# Altium integrated library TI Amplifiers and Linear Operational Amplifier Precision Amplifier Part One.IntLib: 2299 symbols (part 66 of 85)
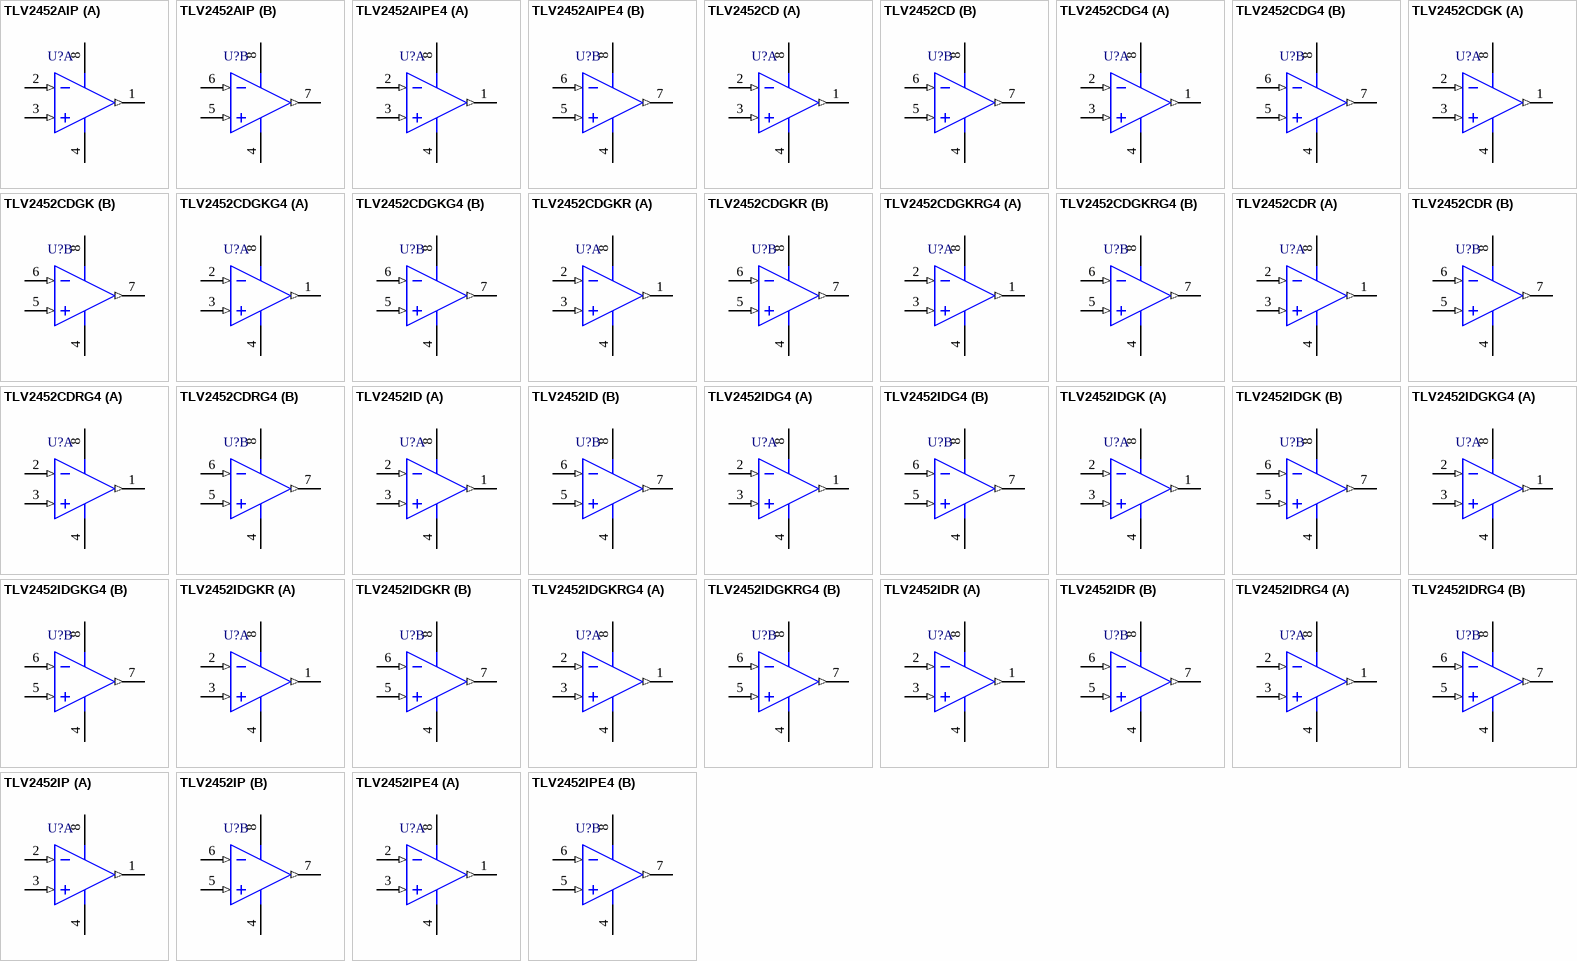
[diagram p189: symbols TLV2452AIP to TLV2452IPE4]

## TLV2452CD
designator U?
Dual Micropower Rail-to-Rail Input / Output Operational Amplifier, 2.7 to 6 V, 0 to 70 degC, 8-pin SOIC (D8), Green (RoHS & no Sb/Br); Manufacturer: Texas Instruments; PartNumber: TLV2452CD; CMRR(Min)(dB): 70; IIB(Max)(pA): 5000; Iq per channel(Max)(mA): 0.035; Number of Channels: 2; Offset Drift(Typ)(uV/C): 0.3; Slew Rate(Typ)(V/us): 0.11; Sub Family: Low Power Amp (<=500uA), Low Supply Voltage Amplifier (<=2.7V), Precision Amplifier; Total Supply Voltage(Max)(+5V is 5, +/-5V is 10): 6; Total Supply Voltage(Min)(+5V is 5, +/-5V is 10): 2.7; Vio (25C)(Max)(mV): 1.5; Vn at 1kHz(Typ)(nV/rtHz): 51; DatasheetVersion: SLOS218F; PackageVersion: 4040047-3/M, 06/2011; PackageReference: D8; PackageDescription: 8-Pin Plastic Small Outline, Body 4.9 x 3.9 mm, Pitch 1.27 mm; Supplier 1: Digi-Key; Supplier Part Number 1: 296-2428-5-ND; Supplier 2: Newark; Supplier Part Number 2: 19C8995; Supplier 3: Mouser; Supplier Part Number 3: 595-TLV2452CD; Eco-Plan: Green (RoHS & no Sb/Br); Mounting Technology: Surface Mount; Code_JEDEC: MS-012; ComponentLink1Description: Manufacturer URL; ComponentLink1URL: http://www.ti.com/; ComponentLink2Description: Datasheet; ComponentLink2URL: http://www.ti.com/general/docs/lit/getliterature.tsp?genericPartNumber=TLV2452&fileType=pdf; ComponentLink3Description: Package Specification; ComponentLink3URL: http://www.ti.com/litv/pdf/msoi002j
footprint TI-D8_N (SOIC, 8-Leads, Body 4.9x3.9mm, Pitch 1.27mm, IPC Medium Density)
footprint TI-D8_L (SOIC, 8-Leads, Body 4.9x3.9mm, Pitch 1.27mm, IPC High Density)
footprint TI-D8_M (SOIC, 8-Leads, Body 4.9x3.9mm, Pitch 1.27mm, IPC Low Density)
pins on every part: 4 GND (power), 8 VDD+ (power)
part A pins: 1 OUT1 (out), 2 IN1- (in), 3 IN1+ (in)
part B pins: 5 IN2+ (in), 6 IN2- (in), 7 OUT2 (out)

## TLV2452CDG4
designator U?
Dual Micropower Rail-to-Rail Input / Output Operational Amplifier, 2.7 to 6 V, 0 to 70 degC, 8-pin SOIC (D8), Green (RoHS & no Sb/Br); Manufacturer: Texas Instruments; PartNumber: TLV2452CDG4; CMRR(Min)(dB): 70; IIB(Max)(pA): 5000; Iq per channel(Max)(mA): 0.035; Number of Channels: 2; Offset Drift(Typ)(uV/C): 0.3; Slew Rate(Typ)(V/us): 0.11; Sub Family: Low Power Amp (<=500uA), Low Supply Voltage Amplifier (<=2.7V), Precision Amplifier; Total Supply Voltage(Max)(+5V is 5, +/-5V is 10): 6; Total Supply Voltage(Min)(+5V is 5, +/-5V is 10): 2.7; Vio (25C)(Max)(mV): 1.5; Vn at 1kHz(Typ)(nV/rtHz): 51; DatasheetVersion: SLOS218F; PackageVersion: 4040047-3/M, 06/2011; PackageReference: D8; PackageDescription: 8-Pin Plastic Small Outline, Body 4.9 x 3.9 mm, Pitch 1.27 mm; Supplier 1: Digi-Key; Supplier Part Number 1: TLV2452CDG4-ND; Supplier 2: Mouser; Supplier Part Number 2: 595-TLV2452CDG4; Eco-Plan: Green (RoHS & no Sb/Br); Mounting Technology: Surface Mount; Code_JEDEC: MS-012; ComponentLink1Description: Manufacturer URL; ComponentLink1URL: http://www.ti.com/; ComponentLink2Description: Datasheet; ComponentLink2URL: http://www.ti.com/general/docs/lit/getliterature.tsp?genericPartNumber=TLV2452&fileType=pdf; ComponentLink3Description: Package Specification; ComponentLink3URL: http://www.ti.com/litv/pdf/msoi002j
footprint TI-D8_N (SOIC, 8-Leads, Body 4.9x3.9mm, Pitch 1.27mm, IPC Medium Density)
footprint TI-D8_L (SOIC, 8-Leads, Body 4.9x3.9mm, Pitch 1.27mm, IPC High Density)
footprint TI-D8_M (SOIC, 8-Leads, Body 4.9x3.9mm, Pitch 1.27mm, IPC Low Density)
pins on every part: 4 GND (power), 8 VDD+ (power)
part A pins: 1 OUT1 (out), 2 IN1- (in), 3 IN1+ (in)
part B pins: 5 IN2+ (in), 6 IN2- (in), 7 OUT2 (out)

## TLV2452CDGK
designator U?
Dual Micropower Rail-to-Rail Input / Output Operational Amplifier, 2.7 to 6 V, 0 to 70 degC, 8-pin SOP (DGK8), Green (RoHS & no Sb/Br); Manufacturer: Texas Instruments; PartNumber: TLV2452CDGK; CMRR(Min)(dB): 70; IIB(Max)(pA): 5000; Iq per channel(Max)(mA): 0.035; Number of Channels: 2; Offset Drift(Typ)(uV/C): 0.3; Slew Rate(Typ)(V/us): 0.11; Sub Family: Low Power Amp (<=500uA), Low Supply Voltage Amplifier (<=2.7V), Precision Amplifier; Total Supply Voltage(Max)(+5V is 5, +/-5V is 10): 6; Total Supply Voltage(Min)(+5V is 5, +/-5V is 10): 2.7; Vio (25C)(Max)(mV): 1.5; Vn at 1kHz(Typ)(nV/rtHz): 51; DatasheetVersion: SLOS218F; PackageVersion: 4073329/E, 05/2006; PackageReference: DGK8; PackageDescription: 8-Pin Thin Small Outline, Body 3 x 3 mm, Pitch 0.65 mm; Supplier 1: Digi-Key; Supplier Part Number 1: 296-34434-5-ND; Supplier 2: Newark; Supplier Part Number 2: 76C8119; Supplier 3: Mouser; Supplier Part Number 3: 595-TLV2452CDGK; Eco-Plan: Green (RoHS & no Sb/Br); Mounting Technology: Surface Mount; Code_JEDEC: MO-187; ComponentLink1Description: Manufacturer URL; ComponentLink1URL: http://www.ti.com/; ComponentLink2Description: Datasheet; ComponentLink2URL: http://www.ti.com/general/docs/lit/getliterature.tsp?genericPartNumber=TLV2452&fileType=pdf; ComponentLink3Description: Package Specification; ComponentLink3URL: http://www.ti.com/litv/pdf/mpds028d
footprint TI-DGK8_N (SOP, 8-Leads, Body 3x3mm, Pitch 0.65mm, IPC Medium Density)
footprint TI-DGK8_L (SOP, 8-Leads, Body 3x3mm, Pitch 0.65mm, IPC High Density)
footprint TI-DGK8_M (SOP, 8-Leads, Body 3x3mm, Pitch 0.65mm, IPC Low Density)
pins on every part: 4 GND (power), 8 VDD+ (power)
part A pins: 1 OUT1 (out), 2 IN1- (in), 3 IN1+ (in)
part B pins: 5 IN2+ (in), 6 IN2- (in), 7 OUT2 (out)

## TLV2452CDGKG4
designator U?
Dual Micropower Rail-to-Rail Input / Output Operational Amplifier, 2.7 to 6 V, 0 to 70 degC, 8-pin SOP (DGK8), Green (RoHS & no Sb/Br); Manufacturer: Texas Instruments; PartNumber: TLV2452CDGKG4; CMRR(Min)(dB): 70; IIB(Max)(pA): 5000; Iq per channel(Max)(mA): 0.035; Number of Channels: 2; Offset Drift(Typ)(uV/C): 0.3; Slew Rate(Typ)(V/us): 0.11; Sub Family: Low Power Amp (<=500uA), Low Supply Voltage Amplifier (<=2.7V), Precision Amplifier; Total Supply Voltage(Max)(+5V is 5, +/-5V is 10): 6; Total Supply Voltage(Min)(+5V is 5, +/-5V is 10): 2.7; Vio (25C)(Max)(mV): 1.5; Vn at 1kHz(Typ)(nV/rtHz): 51; DatasheetVersion: SLOS218F; PackageVersion: 4073329/E, 05/2006; PackageReference: DGK8; PackageDescription: 8-Pin Thin Small Outline, Body 3 x 3 mm, Pitch 0.65 mm; Supplier 1: Digi-Key; Supplier Part Number 1: TLV2452CDGKG4-ND; Supplier 2: Newark; Supplier Part Number 2: 66K4419; Supplier 3: Mouser; Supplier Part Number 3: 595-TLV2452CDGKG4; Eco-Plan: Green (RoHS & no Sb/Br); Mounting Technology: Surface Mount; Code_JEDEC: MO-187; ComponentLink1Description: Manufacturer URL; ComponentLink1URL: http://www.ti.com/; ComponentLink2Description: Datasheet; ComponentLink2URL: http://www.ti.com/general/docs/lit/getliterature.tsp?genericPartNumber=TLV2452&fileType=pdf; ComponentLink3Description: Package Specification; ComponentLink3URL: http://www.ti.com/litv/pdf/mpds028d
footprint TI-DGK8_N (SOP, 8-Leads, Body 3x3mm, Pitch 0.65mm, IPC Medium Density)
footprint TI-DGK8_L (SOP, 8-Leads, Body 3x3mm, Pitch 0.65mm, IPC High Density)
footprint TI-DGK8_M (SOP, 8-Leads, Body 3x3mm, Pitch 0.65mm, IPC Low Density)
pins on every part: 4 GND (power), 8 VDD+ (power)
part A pins: 1 OUT1 (out), 2 IN1- (in), 3 IN1+ (in)
part B pins: 5 IN2+ (in), 6 IN2- (in), 7 OUT2 (out)

## TLV2452CDGKR
designator U?
Dual Micropower Rail-to-Rail Input / Output Operational Amplifier, 2.7 to 6 V, 0 to 70 degC, 8-pin SOP (DGK8), Green (RoHS & no Sb/Br); Manufacturer: Texas Instruments; PartNumber: TLV2452CDGKR; CMRR(Min)(dB): 70; IIB(Max)(pA): 5000; Iq per channel(Max)(mA): 0.035; Number of Channels: 2; Offset Drift(Typ)(uV/C): 0.3; Slew Rate(Typ)(V/us): 0.11; Sub Family: Low Power Amp (<=500uA), Low Supply Voltage Amplifier (<=2.7V), Precision Amplifier; Total Supply Voltage(Max)(+5V is 5, +/-5V is 10): 6; Total Supply Voltage(Min)(+5V is 5, +/-5V is 10): 2.7; Vio (25C)(Max)(mV): 1.5; Vn at 1kHz(Typ)(nV/rtHz): 51; DatasheetVersion: SLOS218F; PackageVersion: 4073329/E, 05/2006; PackageReference: DGK8; PackageDescription: 8-Pin Thin Small Outline, Body 3 x 3 mm, Pitch 0.65 mm; Supplier 1: Digi-Key; Supplier Part Number 1: 296-10580-2-ND; Supplier 2: Digi-Key; Supplier Part Number 2: 296-10580-1-ND; Supplier 3: Digi-Key; Supplier Part Number 3: 296-10580-6-ND; Supplier 4: Newark; Supplier Part Number 4: 76C8120; Supplier 5: Mouser; Supplier Part Number 5: 595-TLV2452CDGKR; Eco-Plan: Green (RoHS & no Sb/Br); Mounting Technology: Surface Mount; Code_JEDEC: MO-187; ComponentLink1Description: Manufacturer URL; ComponentLink1URL: http://www.ti.com/; ComponentLink2Description: Datasheet; ComponentLink2URL: http://www.ti.com/general/docs/lit/getliterature.tsp?genericPartNumber=TLV2452&fileType=pdf; ComponentLink3Description: Package Specification; ComponentLink3URL: http://www.ti.com/litv/pdf/mpds028d
footprint TI-DGK8_N (SOP, 8-Leads, Body 3x3mm, Pitch 0.65mm, IPC Medium Density)
footprint TI-DGK8_L (SOP, 8-Leads, Body 3x3mm, Pitch 0.65mm, IPC High Density)
footprint TI-DGK8_M (SOP, 8-Leads, Body 3x3mm, Pitch 0.65mm, IPC Low Density)
pins on every part: 4 GND (power), 8 VDD+ (power)
part A pins: 1 OUT1 (out), 2 IN1- (in), 3 IN1+ (in)
part B pins: 5 IN2+ (in), 6 IN2- (in), 7 OUT2 (out)

## TLV2452CDGKRG4
designator U?
Dual Micropower Rail-to-Rail Input / Output Operational Amplifier, 2.7 to 6 V, 0 to 70 degC, 8-pin SOP (DGK8), Green (RoHS & no Sb/Br); Manufacturer: Texas Instruments; PartNumber: TLV2452CDGKRG4; CMRR(Min)(dB): 70; IIB(Max)(pA): 5000; Iq per channel(Max)(mA): 0.035; Number of Channels: 2; Offset Drift(Typ)(uV/C): 0.3; Slew Rate(Typ)(V/us): 0.11; Sub Family: Low Power Amp (<=500uA), Low Supply Voltage Amplifier (<=2.7V), Precision Amplifier; Total Supply Voltage(Max)(+5V is 5, +/-5V is 10): 6; Total Supply Voltage(Min)(+5V is 5, +/-5V is 10): 2.7; Vio (25C)(Max)(mV): 1.5; Vn at 1kHz(Typ)(nV/rtHz): 51; DatasheetVersion: SLOS218F; PackageVersion: 4073329/E, 05/2006; PackageReference: DGK8; PackageDescription: 8-Pin Thin Small Outline, Body 3 x 3 mm, Pitch 0.65 mm; Supplier 1: Digi-Key; Supplier Part Number 1: TLV2452CDGKRG4-ND; Supplier 2: Mouser; Supplier Part Number 2: 595-TLV2452CDGKRG4; Eco-Plan: Green (RoHS & no Sb/Br); Mounting Technology: Surface Mount; Code_JEDEC: MO-187; ComponentLink1Description: Manufacturer URL; ComponentLink1URL: http://www.ti.com/; ComponentLink2Description: Datasheet; ComponentLink2URL: http://www.ti.com/general/docs/lit/getliterature.tsp?genericPartNumber=TLV2452&fileType=pdf; ComponentLink3Description: Package Specification; ComponentLink3URL: http://www.ti.com/litv/pdf/mpds028d
footprint TI-DGK8_N (SOP, 8-Leads, Body 3x3mm, Pitch 0.65mm, IPC Medium Density)
footprint TI-DGK8_L (SOP, 8-Leads, Body 3x3mm, Pitch 0.65mm, IPC High Density)
footprint TI-DGK8_M (SOP, 8-Leads, Body 3x3mm, Pitch 0.65mm, IPC Low Density)
pins on every part: 4 GND (power), 8 VDD+ (power)
part A pins: 1 OUT1 (out), 2 IN1- (in), 3 IN1+ (in)
part B pins: 5 IN2+ (in), 6 IN2- (in), 7 OUT2 (out)

## TLV2452CDR
designator U?
Dual Micropower Rail-to-Rail Input / Output Operational Amplifier, 2.7 to 6 V, 0 to 70 degC, 8-pin SOIC (D8), Green (RoHS & no Sb/Br); Manufacturer: Texas Instruments; PartNumber: TLV2452CDR; CMRR(Min)(dB): 70; IIB(Max)(pA): 5000; Iq per channel(Max)(mA): 0.035; Number of Channels: 2; Offset Drift(Typ)(uV/C): 0.3; Slew Rate(Typ)(V/us): 0.11; Sub Family: Low Power Amp (<=500uA), Low Supply Voltage Amplifier (<=2.7V), Precision Amplifier; Total Supply Voltage(Max)(+5V is 5, +/-5V is 10): 6; Total Supply Voltage(Min)(+5V is 5, +/-5V is 10): 2.7; Vio (25C)(Max)(mV): 1.5; Vn at 1kHz(Typ)(nV/rtHz): 51; DatasheetVersion: SLOS218F; PackageVersion: 4040047-3/M, 06/2011; PackageReference: D8; PackageDescription: 8-Pin Plastic Small Outline, Body 4.9 x 3.9 mm, Pitch 1.27 mm; Supplier 1: Digi-Key; Supplier Part Number 1: 296-2428-2-ND; Supplier 2: Digi-Key; Supplier Part Number 2: 296-2428-1-ND; Supplier 3: Digi-Key; Supplier Part Number 3: 296-2428-6-ND; Supplier 4: Mouser; Supplier Part Number 4: 595-TLV2452CDR; Eco-Plan: Green (RoHS & no Sb/Br); Mounting Technology: Surface Mount; Code_JEDEC: MS-012; ComponentLink1Description: Manufacturer URL; ComponentLink1URL: http://www.ti.com/; ComponentLink2Description: Datasheet; ComponentLink2URL: http://www.ti.com/general/docs/lit/getliterature.tsp?genericPartNumber=TLV2452&fileType=pdf; ComponentLink3Description: Package Specification; ComponentLink3URL: http://www.ti.com/litv/pdf/msoi002j
footprint TI-D8_N (SOIC, 8-Leads, Body 4.9x3.9mm, Pitch 1.27mm, IPC Medium Density)
footprint TI-D8_L (SOIC, 8-Leads, Body 4.9x3.9mm, Pitch 1.27mm, IPC High Density)
footprint TI-D8_M (SOIC, 8-Leads, Body 4.9x3.9mm, Pitch 1.27mm, IPC Low Density)
pins on every part: 4 GND (power), 8 VDD+ (power)
part A pins: 1 OUT1 (out), 2 IN1- (in), 3 IN1+ (in)
part B pins: 5 IN2+ (in), 6 IN2- (in), 7 OUT2 (out)

## TLV2452CDRG4
designator U?
Dual Micropower Rail-to-Rail Input / Output Operational Amplifier, 2.7 to 6 V, 0 to 70 degC, 8-pin SOIC (D8), Green (RoHS & no Sb/Br); Manufacturer: Texas Instruments; PartNumber: TLV2452CDRG4; CMRR(Min)(dB): 70; IIB(Max)(pA): 5000; Iq per channel(Max)(mA): 0.035; Number of Channels: 2; Offset Drift(Typ)(uV/C): 0.3; Slew Rate(Typ)(V/us): 0.11; Sub Family: Low Power Amp (<=500uA), Low Supply Voltage Amplifier (<=2.7V), Precision Amplifier; Total Supply Voltage(Max)(+5V is 5, +/-5V is 10): 6; Total Supply Voltage(Min)(+5V is 5, +/-5V is 10): 2.7; Vio (25C)(Max)(mV): 1.5; Vn at 1kHz(Typ)(nV/rtHz): 51; DatasheetVersion: SLOS218F; PackageVersion: 4040047-3/M, 06/2011; PackageReference: D8; PackageDescription: 8-Pin Plastic Small Outline, Body 4.9 x 3.9 mm, Pitch 1.27 mm; Supplier 1: Digi-Key; Supplier Part Number 1: TLV2452CDRG4-ND; Supplier 2: Mouser; Supplier Part Number 2: 595-TLV2452CDRG4; Eco-Plan: Green (RoHS & no Sb/Br); Mounting Technology: Surface Mount; Code_JEDEC: MS-012; ComponentLink1Description: Manufacturer URL; ComponentLink1URL: http://www.ti.com/; ComponentLink2Description: Datasheet; ComponentLink2URL: http://www.ti.com/general/docs/lit/getliterature.tsp?genericPartNumber=TLV2452&fileType=pdf; ComponentLink3Description: Package Specification; ComponentLink3URL: http://www.ti.com/litv/pdf/msoi002j
footprint TI-D8_N (SOIC, 8-Leads, Body 4.9x3.9mm, Pitch 1.27mm, IPC Medium Density)
footprint TI-D8_L (SOIC, 8-Leads, Body 4.9x3.9mm, Pitch 1.27mm, IPC High Density)
footprint TI-D8_M (SOIC, 8-Leads, Body 4.9x3.9mm, Pitch 1.27mm, IPC Low Density)
pins on every part: 4 GND (power), 8 VDD+ (power)
part A pins: 1 OUT1 (out), 2 IN1- (in), 3 IN1+ (in)
part B pins: 5 IN2+ (in), 6 IN2- (in), 7 OUT2 (out)

## TLV2452ID
designator U?
Dual Micropower Rail-to-Rail Input / Output Operational Amplifier, 2.7 to 6 V, -40 to 125 degC, 8-pin SOIC (D8), Green (RoHS & no Sb/Br); Manufacturer: Texas Instruments; PartNumber: TLV2452ID; CMRR(Min)(dB): 70; IIB(Max)(pA): 5000; Iq per channel(Max)(mA): 0.035; Number of Channels: 2; Offset Drift(Typ)(uV/C): 0.3; Slew Rate(Typ)(V/us): 0.11; Sub Family: Low Power Amp (<=500uA), Low Supply Voltage Amplifier (<=2.7V), Precision Amplifier; Total Supply Voltage(Max)(+5V is 5, +/-5V is 10): 6; Total Supply Voltage(Min)(+5V is 5, +/-5V is 10): 2.7; Vio (25C)(Max)(mV): 1.5; Vn at 1kHz(Typ)(nV/rtHz): 51; DatasheetVersion: SLOS218F; PackageVersion: 4040047-3/M, 06/2011; PackageReference: D8; PackageDescription: 8-Pin Plastic Small Outline, Body 4.9 x 3.9 mm, Pitch 1.27 mm; Supplier 1: Digi-Key; Supplier Part Number 1: 296-34435-5-ND; Supplier 2: Newark; Supplier Part Number 2: 76C8123; Supplier 3: Mouser; Supplier Part Number 3: 595-TLV2452ID; Eco-Plan: Green (RoHS & no Sb/Br); Mounting Technology: Surface Mount; Code_JEDEC: MS-012; ComponentLink1Description: Manufacturer URL; ComponentLink1URL: http://www.ti.com/; ComponentLink2Description: Datasheet; ComponentLink2URL: http://www.ti.com/general/docs/lit/getliterature.tsp?genericPartNumber=TLV2452&fileType=pdf; ComponentLink3Description: Package Specification; ComponentLink3URL: http://www.ti.com/litv/pdf/msoi002j
footprint TI-D8_N (SOIC, 8-Leads, Body 4.9x3.9mm, Pitch 1.27mm, IPC Medium Density)
footprint TI-D8_L (SOIC, 8-Leads, Body 4.9x3.9mm, Pitch 1.27mm, IPC High Density)
footprint TI-D8_M (SOIC, 8-Leads, Body 4.9x3.9mm, Pitch 1.27mm, IPC Low Density)
pins on every part: 4 GND (power), 8 VDD+ (power)
part A pins: 1 OUT1 (out), 2 IN1- (in), 3 IN1+ (in)
part B pins: 5 IN2+ (in), 6 IN2- (in), 7 OUT2 (out)

## TLV2452IDG4
designator U?
Dual Micropower Rail-to-Rail Input / Output Operational Amplifier, 2.7 to 6 V, -40 to 125 degC, 8-pin SOIC (D8), Green (RoHS & no Sb/Br); Manufacturer: Texas Instruments; PartNumber: TLV2452IDG4; CMRR(Min)(dB): 70; IIB(Max)(pA): 5000; Iq per channel(Max)(mA): 0.035; Number of Channels: 2; Offset Drift(Typ)(uV/C): 0.3; Slew Rate(Typ)(V/us): 0.11; Sub Family: Low Power Amp (<=500uA), Low Supply Voltage Amplifier (<=2.7V), Precision Amplifier; Total Supply Voltage(Max)(+5V is 5, +/-5V is 10): 6; Total Supply Voltage(Min)(+5V is 5, +/-5V is 10): 2.7; Vio (25C)(Max)(mV): 1.5; Vn at 1kHz(Typ)(nV/rtHz): 51; DatasheetVersion: SLOS218F; PackageVersion: 4040047-3/M, 06/2011; PackageReference: D8; PackageDescription: 8-Pin Plastic Small Outline, Body 4.9 x 3.9 mm, Pitch 1.27 mm; Supplier 1: Digi-Key; Supplier Part Number 1: TLV2452IDG4-ND; Supplier 2: Mouser; Supplier Part Number 2: 595-TLV2452IDG4; Eco-Plan: Green (RoHS & no Sb/Br); Mounting Technology: Surface Mount; Code_JEDEC: MS-012; ComponentLink1Description: Manufacturer URL; ComponentLink1URL: http://www.ti.com/; ComponentLink2Description: Datasheet; ComponentLink2URL: http://www.ti.com/general/docs/lit/getliterature.tsp?genericPartNumber=TLV2452&fileType=pdf; ComponentLink3Description: Package Specification; ComponentLink3URL: http://www.ti.com/litv/pdf/msoi002j
footprint TI-D8_N (SOIC, 8-Leads, Body 4.9x3.9mm, Pitch 1.27mm, IPC Medium Density)
footprint TI-D8_L (SOIC, 8-Leads, Body 4.9x3.9mm, Pitch 1.27mm, IPC High Density)
footprint TI-D8_M (SOIC, 8-Leads, Body 4.9x3.9mm, Pitch 1.27mm, IPC Low Density)
pins on every part: 4 GND (power), 8 VDD+ (power)
part A pins: 1 OUT1 (out), 2 IN1- (in), 3 IN1+ (in)
part B pins: 5 IN2+ (in), 6 IN2- (in), 7 OUT2 (out)

## TLV2452IDGK
designator U?
Dual Micropower Rail-to-Rail Input / Output Operational Amplifier, 2.7 to 6 V, -40 to 125 degC, 8-pin SOP (DGK8), Green (RoHS & no Sb/Br); Manufacturer: Texas Instruments; PartNumber: TLV2452IDGK; CMRR(Min)(dB): 70; IIB(Max)(pA): 5000; Iq per channel(Max)(mA): 0.035; Number of Channels: 2; Offset Drift(Typ)(uV/C): 0.3; Slew Rate(Typ)(V/us): 0.11; Sub Family: Low Power Amp (<=500uA), Low Supply Voltage Amplifier (<=2.7V), Precision Amplifier; Total Supply Voltage(Max)(+5V is 5, +/-5V is 10): 6; Total Supply Voltage(Min)(+5V is 5, +/-5V is 10): 2.7; Vio (25C)(Max)(mV): 1.5; Vn at 1kHz(Typ)(nV/rtHz): 51; DatasheetVersion: SLOS218F; PackageVersion: 4073329/E, 05/2006; PackageReference: DGK8; PackageDescription: 8-Pin Thin Small Outline, Body 3 x 3 mm, Pitch 0.65 mm; Supplier 1: Digi-Key; Supplier Part Number 1: 296-34436-5-ND; Supplier 2: Mouser; Supplier Part Number 2: 595-TLV2452IDGK; Eco-Plan: Green (RoHS & no Sb/Br); Mounting Technology: Surface Mount; Code_JEDEC: MO-187; ComponentLink1Description: Manufacturer URL; ComponentLink1URL: http://www.ti.com/; ComponentLink2Description: Datasheet; ComponentLink2URL: http://www.ti.com/general/docs/lit/getliterature.tsp?genericPartNumber=TLV2452&fileType=pdf; ComponentLink3Description: Package Specification; ComponentLink3URL: http://www.ti.com/litv/pdf/mpds028d
footprint TI-DGK8_N (SOP, 8-Leads, Body 3x3mm, Pitch 0.65mm, IPC Medium Density)
footprint TI-DGK8_L (SOP, 8-Leads, Body 3x3mm, Pitch 0.65mm, IPC High Density)
footprint TI-DGK8_M (SOP, 8-Leads, Body 3x3mm, Pitch 0.65mm, IPC Low Density)
pins on every part: 4 GND (power), 8 VDD+ (power)
part A pins: 1 OUT1 (out), 2 IN1- (in), 3 IN1+ (in)
part B pins: 5 IN2+ (in), 6 IN2- (in), 7 OUT2 (out)

## TLV2452IDGKG4
designator U?
Dual Micropower Rail-to-Rail Input / Output Operational Amplifier, 2.7 to 6 V, -40 to 125 degC, 8-pin SOP (DGK8), Green (RoHS & no Sb/Br); Manufacturer: Texas Instruments; PartNumber: TLV2452IDGKG4; CMRR(Min)(dB): 70; IIB(Max)(pA): 5000; Iq per channel(Max)(mA): 0.035; Number of Channels: 2; Offset Drift(Typ)(uV/C): 0.3; Slew Rate(Typ)(V/us): 0.11; Sub Family: Low Power Amp (<=500uA), Low Supply Voltage Amplifier (<=2.7V), Precision Amplifier; Total Supply Voltage(Max)(+5V is 5, +/-5V is 10): 6; Total Supply Voltage(Min)(+5V is 5, +/-5V is 10): 2.7; Vio (25C)(Max)(mV): 1.5; Vn at 1kHz(Typ)(nV/rtHz): 51; DatasheetVersion: SLOS218F; PackageVersion: 4073329/E, 05/2006; PackageReference: DGK8; PackageDescription: 8-Pin Thin Small Outline, Body 3 x 3 mm, Pitch 0.65 mm; Supplier 1: Digi-Key; Supplier Part Number 1: TLV2452IDGKG4-ND; Supplier 2: Newark; Supplier Part Number 2: 70K5535; Supplier 3: Mouser; Supplier Part Number 3: 595-TLV2452IDGKG4; Eco-Plan: Green (RoHS & no Sb/Br); Mounting Technology: Surface Mount; Code_JEDEC: MO-187; ComponentLink1Description: Manufacturer URL; ComponentLink1URL: http://www.ti.com/; ComponentLink2Description: Datasheet; ComponentLink2URL: http://www.ti.com/general/docs/lit/getliterature.tsp?genericPartNumber=TLV2452&fileType=pdf; ComponentLink3Description: Package Specification; ComponentLink3URL: http://www.ti.com/litv/pdf/mpds028d
footprint TI-DGK8_N (SOP, 8-Leads, Body 3x3mm, Pitch 0.65mm, IPC Medium Density)
footprint TI-DGK8_L (SOP, 8-Leads, Body 3x3mm, Pitch 0.65mm, IPC High Density)
footprint TI-DGK8_M (SOP, 8-Leads, Body 3x3mm, Pitch 0.65mm, IPC Low Density)
pins on every part: 4 GND (power), 8 VDD+ (power)
part A pins: 1 OUT1 (out), 2 IN1- (in), 3 IN1+ (in)
part B pins: 5 IN2+ (in), 6 IN2- (in), 7 OUT2 (out)

## TLV2452IDGKR
designator U?
Dual Micropower Rail-to-Rail Input / Output Operational Amplifier, 2.7 to 6 V, -40 to 125 degC, 8-pin SOP (DGK8), Green (RoHS & no Sb/Br); Manufacturer: Texas Instruments; PartNumber: TLV2452IDGKR; CMRR(Min)(dB): 70; IIB(Max)(pA): 5000; Iq per channel(Max)(mA): 0.035; Number of Channels: 2; Offset Drift(Typ)(uV/C): 0.3; Slew Rate(Typ)(V/us): 0.11; Sub Family: Low Power Amp (<=500uA), Low Supply Voltage Amplifier (<=2.7V), Precision Amplifier; Total Supply Voltage(Max)(+5V is 5, +/-5V is 10): 6; Total Supply Voltage(Min)(+5V is 5, +/-5V is 10): 2.7; Vio (25C)(Max)(mV): 1.5; Vn at 1kHz(Typ)(nV/rtHz): 51; DatasheetVersion: SLOS218F; PackageVersion: 4073329/E, 05/2006; PackageReference: DGK8; PackageDescription: 8-Pin Thin Small Outline, Body 3 x 3 mm, Pitch 0.65 mm; Supplier 1: Digi-Key; Supplier Part Number 1: 296-10582-2-ND; Supplier 2: Digi-Key; Supplier Part Number 2: 296-10582-1-ND; Supplier 3: Digi-Key; Supplier Part Number 3: 296-10582-6-ND; Supplier 4: Newark; Supplier Part Number 4: 76C8125; Supplier 5: Mouser; Supplier Part Number 5: 595-TLV2452IDGKR; Eco-Plan: Green (RoHS & no Sb/Br); Mounting Technology: Surface Mount; Code_JEDEC: MO-187; ComponentLink1Description: Manufacturer URL; ComponentLink1URL: http://www.ti.com/; ComponentLink2Description: Datasheet; ComponentLink2URL: http://www.ti.com/general/docs/lit/getliterature.tsp?genericPartNumber=TLV2452&fileType=pdf; ComponentLink3Description: Package Specification; ComponentLink3URL: http://www.ti.com/litv/pdf/mpds028d
footprint TI-DGK8_N (SOP, 8-Leads, Body 3x3mm, Pitch 0.65mm, IPC Medium Density)
footprint TI-DGK8_L (SOP, 8-Leads, Body 3x3mm, Pitch 0.65mm, IPC High Density)
footprint TI-DGK8_M (SOP, 8-Leads, Body 3x3mm, Pitch 0.65mm, IPC Low Density)
pins on every part: 4 GND (power), 8 VDD+ (power)
part A pins: 1 OUT1 (out), 2 IN1- (in), 3 IN1+ (in)
part B pins: 5 IN2+ (in), 6 IN2- (in), 7 OUT2 (out)

## TLV2452IDGKRG4
designator U?
Dual Micropower Rail-to-Rail Input / Output Operational Amplifier, 2.7 to 6 V, -40 to 125 degC, 8-pin SOP (DGK8), Green (RoHS & no Sb/Br); Manufacturer: Texas Instruments; PartNumber: TLV2452IDGKRG4; CMRR(Min)(dB): 70; IIB(Max)(pA): 5000; Iq per channel(Max)(mA): 0.035; Number of Channels: 2; Offset Drift(Typ)(uV/C): 0.3; Slew Rate(Typ)(V/us): 0.11; Sub Family: Low Power Amp (<=500uA), Low Supply Voltage Amplifier (<=2.7V), Precision Amplifier; Total Supply Voltage(Max)(+5V is 5, +/-5V is 10): 6; Total Supply Voltage(Min)(+5V is 5, +/-5V is 10): 2.7; Vio (25C)(Max)(mV): 1.5; Vn at 1kHz(Typ)(nV/rtHz): 51; DatasheetVersion: SLOS218F; PackageVersion: 4073329/E, 05/2006; PackageReference: DGK8; PackageDescription: 8-Pin Thin Small Outline, Body 3 x 3 mm, Pitch 0.65 mm; Supplier 1: Digi-Key; Supplier Part Number 1: TLV2452IDGKRG4-ND; Supplier 2: Mouser; Supplier Part Number 2: 595-TLV2452IDGKRG4; Eco-Plan: Green (RoHS & no Sb/Br); Mounting Technology: Surface Mount; Code_JEDEC: MO-187; ComponentLink1Description: Manufacturer URL; ComponentLink1URL: http://www.ti.com/; ComponentLink2Description: Datasheet; ComponentLink2URL: http://www.ti.com/general/docs/lit/getliterature.tsp?genericPartNumber=TLV2452&fileType=pdf; ComponentLink3Description: Package Specification; ComponentLink3URL: http://www.ti.com/litv/pdf/mpds028d
footprint TI-DGK8_N (SOP, 8-Leads, Body 3x3mm, Pitch 0.65mm, IPC Medium Density)
footprint TI-DGK8_L (SOP, 8-Leads, Body 3x3mm, Pitch 0.65mm, IPC High Density)
footprint TI-DGK8_M (SOP, 8-Leads, Body 3x3mm, Pitch 0.65mm, IPC Low Density)
pins on every part: 4 GND (power), 8 VDD+ (power)
part A pins: 1 OUT1 (out), 2 IN1- (in), 3 IN1+ (in)
part B pins: 5 IN2+ (in), 6 IN2- (in), 7 OUT2 (out)

## TLV2452IDR
designator U?
Dual Micropower Rail-to-Rail Input / Output Operational Amplifier, 2.7 to 6 V, -40 to 125 degC, 8-pin SOIC (D8), Green (RoHS & no Sb/Br); Manufacturer: Texas Instruments; PartNumber: TLV2452IDR; CMRR(Min)(dB): 70; IIB(Max)(pA): 5000; Iq per channel(Max)(mA): 0.035; Number of Channels: 2; Offset Drift(Typ)(uV/C): 0.3; Slew Rate(Typ)(V/us): 0.11; Sub Family: Low Power Amp (<=500uA), Low Supply Voltage Amplifier (<=2.7V), Precision Amplifier; Total Supply Voltage(Max)(+5V is 5, +/-5V is 10): 6; Total Supply Voltage(Min)(+5V is 5, +/-5V is 10): 2.7; Vio (25C)(Max)(mV): 1.5; Vn at 1kHz(Typ)(nV/rtHz): 51; DatasheetVersion: SLOS218F; PackageVersion: 4040047-3/M, 06/2011; PackageReference: D8; PackageDescription: 8-Pin Plastic Small Outline, Body 4.9 x 3.9 mm, Pitch 1.27 mm; Supplier 1: Digi-Key; Supplier Part Number 1: 296-10583-2-ND; Supplier 2: Digi-Key; Supplier Part Number 2: 296-10583-1-ND; Supplier 3: Digi-Key; Supplier Part Number 3: 296-10583-6-ND; Supplier 4: Newark; Supplier Part Number 4: 76C8126; Supplier 5: Mouser; Supplier Part Number 5: 595-TLV2452IDR; Eco-Plan: Green (RoHS & no Sb/Br); Mounting Technology: Surface Mount; Code_JEDEC: MS-012; ComponentLink1Description: Manufacturer URL; ComponentLink1URL: http://www.ti.com/; ComponentLink2Description: Datasheet; ComponentLink2URL: http://www.ti.com/general/docs/lit/getliterature.tsp?genericPartNumber=TLV2452&fileType=pdf; ComponentLink3Description: Package Specification; ComponentLink3URL: http://www.ti.com/litv/pdf/msoi002j
footprint TI-D8_N (SOIC, 8-Leads, Body 4.9x3.9mm, Pitch 1.27mm, IPC Medium Density)
footprint TI-D8_L (SOIC, 8-Leads, Body 4.9x3.9mm, Pitch 1.27mm, IPC High Density)
footprint TI-D8_M (SOIC, 8-Leads, Body 4.9x3.9mm, Pitch 1.27mm, IPC Low Density)
pins on every part: 4 GND (power), 8 VDD+ (power)
part A pins: 1 OUT1 (out), 2 IN1- (in), 3 IN1+ (in)
part B pins: 5 IN2+ (in), 6 IN2- (in), 7 OUT2 (out)

## TLV2452IDRG4
designator U?
Dual Micropower Rail-to-Rail Input / Output Operational Amplifier, 2.7 to 6 V, -40 to 125 degC, 8-pin SOIC (D8), Green (RoHS & no Sb/Br); Manufacturer: Texas Instruments; PartNumber: TLV2452IDRG4; CMRR(Min)(dB): 70; IIB(Max)(pA): 5000; Iq per channel(Max)(mA): 0.035; Number of Channels: 2; Offset Drift(Typ)(uV/C): 0.3; Slew Rate(Typ)(V/us): 0.11; Sub Family: Low Power Amp (<=500uA), Low Supply Voltage Amplifier (<=2.7V), Precision Amplifier; Total Supply Voltage(Max)(+5V is 5, +/-5V is 10): 6; Total Supply Voltage(Min)(+5V is 5, +/-5V is 10): 2.7; Vio (25C)(Max)(mV): 1.5; Vn at 1kHz(Typ)(nV/rtHz): 51; DatasheetVersion: SLOS218F; PackageVersion: 4040047-3/M, 06/2011; PackageReference: D8; PackageDescription: 8-Pin Plastic Small Outline, Body 4.9 x 3.9 mm, Pitch 1.27 mm; Supplier 1: Digi-Key; Supplier Part Number 1: TLV2452IDRG4-ND; Supplier 2: Mouser; Supplier Part Number 2: 595-TLV2452IDRG4; Eco-Plan: Green (RoHS & no Sb/Br); Mounting Technology: Surface Mount; Code_JEDEC: MS-012; ComponentLink1Description: Manufacturer URL; ComponentLink1URL: http://www.ti.com/; ComponentLink2Description: Datasheet; ComponentLink2URL: http://www.ti.com/general/docs/lit/getliterature.tsp?genericPartNumber=TLV2452&fileType=pdf; ComponentLink3Description: Package Specification; ComponentLink3URL: http://www.ti.com/litv/pdf/msoi002j
footprint TI-D8_N (SOIC, 8-Leads, Body 4.9x3.9mm, Pitch 1.27mm, IPC Medium Density)
footprint TI-D8_L (SOIC, 8-Leads, Body 4.9x3.9mm, Pitch 1.27mm, IPC High Density)
footprint TI-D8_M (SOIC, 8-Leads, Body 4.9x3.9mm, Pitch 1.27mm, IPC Low Density)
pins on every part: 4 GND (power), 8 VDD+ (power)
part A pins: 1 OUT1 (out), 2 IN1- (in), 3 IN1+ (in)
part B pins: 5 IN2+ (in), 6 IN2- (in), 7 OUT2 (out)

## TLV2452IP
designator U?
Dual Micropower Rail-to-Rail Input / Output Operational Amplifier, 2.7 to 6 V, -40 to 125 degC, 8-pin DIP (P8), Pb-Free (RoHS); Manufacturer: Texas Instruments; PartNumber: TLV2452IP; CMRR(Min)(dB): 70; IIB(Max)(pA): 5000; Iq per channel(Max)(mA): 0.035; Number of Channels: 2; Offset Drift(Typ)(uV/C): 0.3; Slew Rate(Typ)(V/us): 0.11; Sub Family: Low Power Amp (<=500uA), Low Supply Voltage Amplifier (<=2.7V), Precision Amplifier; Total Supply Voltage(Max)(+5V is 5, +/-5V is 10): 6; Total Supply Voltage(Min)(+5V is 5, +/-5V is 10): 2.7; Vio (25C)(Max)(mV): 1.5; Vn at 1kHz(Typ)(nV/rtHz): 51; DatasheetVersion: SLOS218F; PackageVersion: 4040082/E, 04/2010; PackageReference: P8; PackageDescription: 8-Pin Plastic In-Line, Body 9.59 x 6.35 mm, Pitch 2.54 mm; Supplier 1: Digi-Key; Supplier Part Number 1: 296-10584-5-ND; Supplier 2: Newark; Supplier Part Number 2: 76C8127; Supplier 3: Mouser; Supplier Part Number 3: 595-TLV2452IP; Eco-Plan: Pb-Free (RoHS); Mounting Technology: Through Hole; Code_JEDEC: MS-001; ComponentLink1Description: Manufacturer URL; ComponentLink1URL: http://www.ti.com/; ComponentLink2Description: Datasheet; ComponentLink2URL: http://www.ti.com/general/docs/lit/getliterature.tsp?genericPartNumber=TLV2452&fileType=pdf; ComponentLink3Description: Package Specification; ComponentLink3URL: http://www.ti.com/litv/pdf/mpdi001b
footprint TI-P8 (DIP, 8-Leads, Body 9.59x6.35mm, Pitch 2.54mm)
pins on every part: 4 GND (power), 8 VDD+ (power)
part A pins: 1 OUT1 (out), 2 IN1- (in), 3 IN1+ (in)
part B pins: 5 IN2+ (in), 6 IN2- (in), 7 OUT2 (out)

## TLV2452IPE4
designator U?
Dual Micropower Rail-to-Rail Input / Output Operational Amplifier, 2.7 to 6 V, -40 to 125 degC, 8-pin DIP (P8), Pb-Free (RoHS); Manufacturer: Texas Instruments; PartNumber: TLV2452IPE4; CMRR(Min)(dB): 70; IIB(Max)(pA): 5000; Iq per channel(Max)(mA): 0.035; Number of Channels: 2; Offset Drift(Typ)(uV/C): 0.3; Slew Rate(Typ)(V/us): 0.11; Sub Family: Low Power Amp (<=500uA), Low Supply Voltage Amplifier (<=2.7V), Precision Amplifier; Total Supply Voltage(Max)(+5V is 5, +/-5V is 10): 6; Total Supply Voltage(Min)(+5V is 5, +/-5V is 10): 2.7; Vio (25C)(Max)(mV): 1.5; Vn at 1kHz(Typ)(nV/rtHz): 51; DatasheetVersion: SLOS218F; PackageVersion: 4040082/E, 04/2010; PackageReference: P8; PackageDescription: 8-Pin Plastic In-Line, Body 9.59 x 6.35 mm, Pitch 2.54 mm; Supplier 1: Digi-Key; Supplier Part Number 1: TLV2452IPE4-ND; Supplier 2: Mouser; Supplier Part Number 2: 595-TLV2452IPE4; Eco-Plan: Pb-Free (RoHS); Mounting Technology: Through Hole; Code_JEDEC: MS-001; ComponentLink1Description: Manufacturer URL; ComponentLink1URL: http://www.ti.com/; ComponentLink2Description: Datasheet; ComponentLink2URL: http://www.ti.com/general/docs/lit/getliterature.tsp?genericPartNumber=TLV2452&fileType=pdf; ComponentLink3Description: Package Specification; ComponentLink3URL: http://www.ti.com/litv/pdf/mpdi001b
footprint TI-P8 (DIP, 8-Leads, Body 9.59x6.35mm, Pitch 2.54mm)
pins on every part: 4 GND (power), 8 VDD+ (power)
part A pins: 1 OUT1 (out), 2 IN1- (in), 3 IN1+ (in)
part B pins: 5 IN2+ (in), 6 IN2- (in), 7 OUT2 (out)

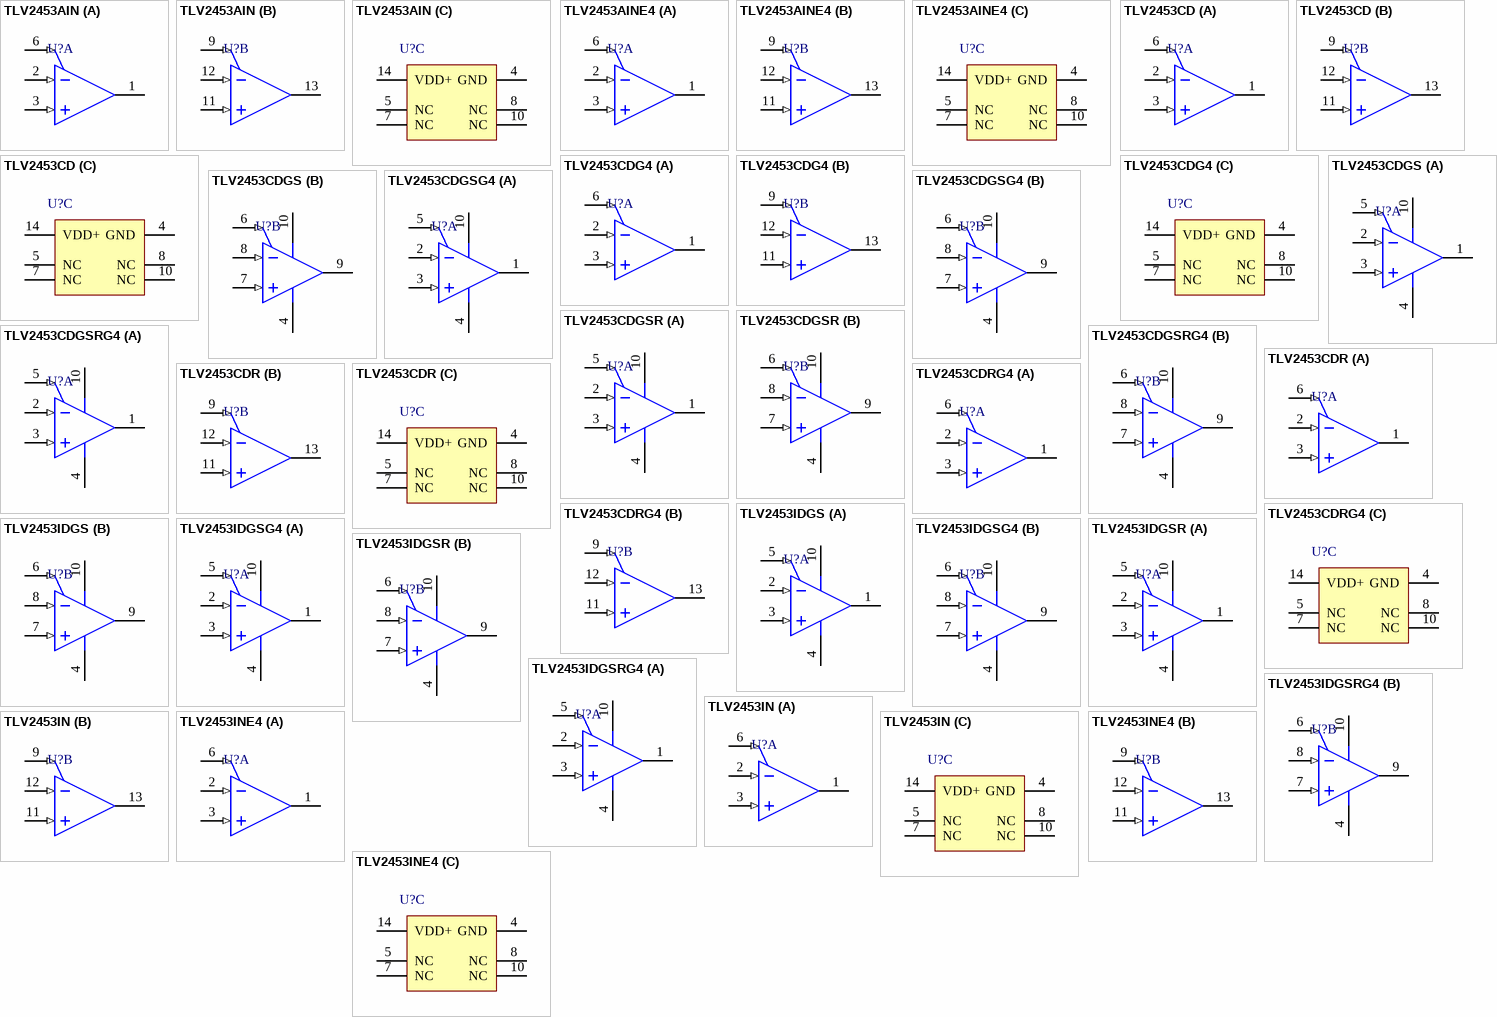
[diagram p96: symbols TLV2453AIN to TLV2453INE4]

## TLV2453AIN
designator U?
Dual 23-uA 220-KHz Rail-to-Rail Input / Output Operational Amplifier with Shutdown, 2.7 to 6 V, -40 to 125 degC, 14-pin DIP (N14), Pb-Free (RoHS); Manufacturer: Texas Instruments; PartNumber: TLV2453AIN; CMRR(Min)(dB): 70; IIB(Max)(pA): 5000; Iq per channel(Max)(mA): 0.035; Number of Channels: 2; Offset Drift(Typ)(uV/C): 0.3; Slew Rate(Typ)(V/us): 0.11; Sub Family: Low Power Amp (<=500uA), Low Supply Voltage Amplifier (<=2.7V), Precision Amplifier; Total Supply Voltage(Max)(+5V is 5, +/-5V is 10): 6; Total Supply Voltage(Min)(+5V is 5, +/-5V is 10): 2.7; Vio (25C)(Max)(mV): 1; Vn at 1kHz(Typ)(nV/rtHz): 51; DatasheetVersion: SLOS218F; PackageVersion: 4040049/E, 12/2002; PackageReference: N14; PackageDescription: 14-Pin Plastic In-Line, Body 19.305 x 6.35 mm, Pitch 2.54 mm; Supplier 1: Digi-Key; Supplier Part Number 1: 296-10586-5-ND; Supplier 2: Mouser; Supplier Part Number 2: 595-TLV2453AIN; Eco-Plan: Pb-Free (RoHS); Mounting Technology: Through Hole; Code_JEDEC: MS-001; ComponentLink1Description: Manufacturer URL; ComponentLink1URL: http://www.ti.com/; ComponentLink2Description: Datasheet; ComponentLink2URL: http://www.ti.com/general/docs/lit/getliterature.tsp?genericPartNumber=TLV2453A&fileType=pdf; ComponentLink3Description: Package Specification; ComponentLink3URL: http://www.ti.com/lit/ml/mpdi002c/mpdi002c.pdf
footprint TI-N14 (DIP, 14-Leads, Body 19.305x6.35 mm, Pitch 2.54 mm)
part A pins: 1 OUT1 (hiz), 2 IN1- (in), 3 IN1+ (in), 6 ~{SHDN1} (in)
part B pins: 9 ~{SHDN2} (in), 11 IN2+ (in), 12 IN2- (in), 13 OUT2 (hiz)
part C pins: 4 GND (power), 5 NC, 7 NC, 8 NC, 10 NC, 14 VDD+ (power)

## TLV2453AINE4
designator U?
Dual 23-uA 220-KHz Rail-to-Rail Input / Output Operational Amplifier with Shutdown, 2.7 to 6 V, -40 to 125 degC, 14-pin DIP (N14), Pb-Free (RoHS); Manufacturer: Texas Instruments; PartNumber: TLV2453AINE4; CMRR(Min)(dB): 70; IIB(Max)(pA): 5000; Iq per channel(Max)(mA): 0.035; Number of Channels: 2; Offset Drift(Typ)(uV/C): 0.3; Slew Rate(Typ)(V/us): 0.11; Sub Family: Low Power Amp (<=500uA), Low Supply Voltage Amplifier (<=2.7V), Precision Amplifier; Total Supply Voltage(Max)(+5V is 5, +/-5V is 10): 6; Total Supply Voltage(Min)(+5V is 5, +/-5V is 10): 2.7; Vio (25C)(Max)(mV): 1; Vn at 1kHz(Typ)(nV/rtHz): 51; DatasheetVersion: SLOS218F; PackageVersion: 4040049/E, 12/2002; PackageReference: N14; PackageDescription: 14-Pin Plastic In-Line, Body 19.305 x 6.35 mm, Pitch 2.54 mm; Supplier 1: Digi-Key; Supplier Part Number 1: TLV2453AINE4-ND; Supplier 2: Mouser; Supplier Part Number 2: 595-TLV2453AINE4; Eco-Plan: Pb-Free (RoHS); Mounting Technology: Through Hole; Code_JEDEC: MS-001; ComponentLink1Description: Manufacturer URL; ComponentLink1URL: http://www.ti.com/; ComponentLink2Description: Datasheet; ComponentLink2URL: http://www.ti.com/general/docs/lit/getliterature.tsp?genericPartNumber=TLV2453A&fileType=pdf; ComponentLink3Description: Package Specification; ComponentLink3URL: http://www.ti.com/lit/ml/mpdi002c/mpdi002c.pdf
footprint TI-N14 (DIP, 14-Leads, Body 19.305x6.35 mm, Pitch 2.54 mm)
part A pins: 1 OUT1 (hiz), 2 IN1- (in), 3 IN1+ (in), 6 ~{SHDN1} (in)
part B pins: 9 ~{SHDN2} (in), 11 IN2+ (in), 12 IN2- (in), 13 OUT2 (hiz)
part C pins: 4 GND (power), 5 NC, 7 NC, 8 NC, 10 NC, 14 VDD+ (power)

## TLV2453CD
designator U?
Dual Micropower Rail-to-Rail Input / Output Operational Amplifier with Shutdown, 2.7 to 6 V, 0 to 70 degC, 14-pin SOIC (D14), Green (RoHS & no Sb/Br); Manufacturer: Texas Instruments; PartNumber: TLV2453CD; CMRR(Min)(dB): 70; IIB(Max)(pA): 5000; Iq per channel(Max)(mA): 0.035; Number of Channels: 2; Offset Drift(Typ)(uV/C): 0.3; Slew Rate(Typ)(V/us): 0.11; Sub Family: Low Power Amp (<=500uA), Low Supply Voltage Amplifier (<=2.7V), Precision Amplifier; Total Supply Voltage(Max)(+5V is 5, +/-5V is 10): 6; Total Supply Voltage(Min)(+5V is 5, +/-5V is 10): 2.7; Vio (25C)(Max)(mV): 1.5; Vn at 1kHz(Typ)(nV/rtHz): 51; DatasheetVersion: SLOS218F; PackageVersion: 4040047-5/M, 06/2011; PackageReference: D14; PackageDescription: 14-Pin Plastic Small Outline, Body 8.65 x 3.9 mm, Pitch 1.27 mm; Supplier 1: Digi-Key; Supplier Part Number 1: 296-2429-5-ND; Supplier 2: Mouser; Supplier Part Number 2: 595-TLV2453CD; Eco-Plan: Green (RoHS & no Sb/Br); Mounting Technology: Surface Mount; Code_JEDEC: MS-012; ComponentLink1Description: Manufacturer URL; ComponentLink1URL: http://www.ti.com/; ComponentLink2Description: Datasheet; ComponentLink2URL: http://www.ti.com/general/docs/lit/getliterature.tsp?genericPartNumber=TLV2453&fileType=pdf; ComponentLink3Description: Package Specification; ComponentLink3URL: http://www.ti.com/lit/ml/mpds177g/mpds177g.pdf
footprint TI-D14_N (SOIC, 14-Leads, Body 8.65x3.9mm, Pitch 1.27mm, IPC Medium Density)
footprint TI-D14_L (SOIC, 14-Leads, Body 8.65x3.9mm, Pitch 1.27mm, IPC High Density)
footprint TI-D14_M (SOIC, 14-Leads, Body 8.65x3.9mm, Pitch 1.27mm, IPC Low Density)
part A pins: 1 OUT1 (hiz), 2 IN1- (in), 3 IN1+ (in), 6 ~{SHDN1} (in)
part B pins: 9 ~{SHDN2} (in), 11 IN2+ (in), 12 IN2- (in), 13 OUT2 (hiz)
part C pins: 4 GND (power), 5 NC, 7 NC, 8 NC, 10 NC, 14 VDD+ (power)

## TLV2453CDG4
designator U?
Dual Micropower Rail-to-Rail Input / Output Operational Amplifier with Shutdown, 2.7 to 6 V, 0 to 70 degC, 14-pin SOIC (D14), Green (RoHS & no Sb/Br); Manufacturer: Texas Instruments; PartNumber: TLV2453CDG4; CMRR(Min)(dB): 70; IIB(Max)(pA): 5000; Iq per channel(Max)(mA): 0.035; Number of Channels: 2; Offset Drift(Typ)(uV/C): 0.3; Slew Rate(Typ)(V/us): 0.11; Sub Family: Low Power Amp (<=500uA), Low Supply Voltage Amplifier (<=2.7V), Precision Amplifier; Total Supply Voltage(Max)(+5V is 5, +/-5V is 10): 6; Total Supply Voltage(Min)(+5V is 5, +/-5V is 10): 2.7; Vio (25C)(Max)(mV): 1.5; Vn at 1kHz(Typ)(nV/rtHz): 51; DatasheetVersion: SLOS218F; PackageVersion: 4040047-5/M, 06/2011; PackageReference: D14; PackageDescription: 14-Pin Plastic Small Outline, Body 8.65 x 3.9 mm, Pitch 1.27 mm; Supplier 1: Digi-Key; Supplier Part Number 1: TLV2453CDG4-ND; Supplier 2: Mouser; Supplier Part Number 2: 595-TLV2453CDG4; Eco-Plan: Green (RoHS & no Sb/Br); Mounting Technology: Surface Mount; Code_JEDEC: MS-012; ComponentLink1Description: Manufacturer URL; ComponentLink1URL: http://www.ti.com/; ComponentLink2Description: Datasheet; ComponentLink2URL: http://www.ti.com/general/docs/lit/getliterature.tsp?genericPartNumber=TLV2453&fileType=pdf; ComponentLink3Description: Package Specification; ComponentLink3URL: http://www.ti.com/lit/ml/mpds177g/mpds177g.pdf
footprint TI-D14_N (SOIC, 14-Leads, Body 8.65x3.9mm, Pitch 1.27mm, IPC Medium Density)
footprint TI-D14_L (SOIC, 14-Leads, Body 8.65x3.9mm, Pitch 1.27mm, IPC High Density)
footprint TI-D14_M (SOIC, 14-Leads, Body 8.65x3.9mm, Pitch 1.27mm, IPC Low Density)
part A pins: 1 OUT1 (hiz), 2 IN1- (in), 3 IN1+ (in), 6 ~{SHDN1} (in)
part B pins: 9 ~{SHDN2} (in), 11 IN2+ (in), 12 IN2- (in), 13 OUT2 (hiz)
part C pins: 4 GND (power), 5 NC, 7 NC, 8 NC, 10 NC, 14 VDD+ (power)

## TLV2453CDGS
designator U?
Dual Micropower Rail-to-Rail Input / Output Operational Amplifier with Shutdown, 2.7 to 6 V, 0 to 70 degC, 10-pin SOP (DGS10), Green (RoHS & no Sb/Br); Manufacturer: Texas Instruments; PartNumber: TLV2453CDGS; CMRR(Min)(dB): 70; IIB(Max)(pA): 5000; Iq per channel(Max)(mA): 0.035; Number of Channels: 2; Offset Drift(Typ)(uV/C): 0.3; Slew Rate(Typ)(V/us): 0.11; Sub Family: Low Power Amp (<=500uA), Low Supply Voltage Amplifier (<=2.7V), Precision Amplifier; Total Supply Voltage(Max)(+5V is 5, +/-5V is 10): 6; Total Supply Voltage(Min)(+5V is 5, +/-5V is 10): 2.7; Vio (25C)(Max)(mV): 1.5; Vn at 1kHz(Typ)(nV/rtHz): 51; DatasheetVersion: SLOS218F; PackageVersion: 4073272/C, 02/2004; PackageReference: DGS10; PackageDescription: 10-Pin Plastic Small Outline, Body 3 x 3 mm, Pitch 0.5 mm; Supplier 1: Digi-Key; Supplier Part Number 1: 296-34437-5-ND; Supplier 2: Mouser; Supplier Part Number 2: 595-TLV2453CDGS; Eco-Plan: Green (RoHS & no Sb/Br); Mounting Technology: Surface Mount; Code_JEDEC: MO-153; ComponentLink1Description: Manufacturer URL; ComponentLink1URL: http://www.ti.com/; ComponentLink2Description: Datasheet; ComponentLink2URL: http://www.ti.com/general/docs/lit/getliterature.tsp?genericPartNumber=TLV2453&fileType=pdf; ComponentLink3Description: Package Specification; ComponentLink3URL: http://www.ti.com/lit/ml/mpds035b/mpds035b.pdf
footprint TI-DGS10_N (SOP, 10-Leads, Body 3x3mm, Pitch 0.5mm, IPC Medium Density)
footprint TI-DGS10_L (SOP, 10-Leads, Body 3x3mm, Pitch 0.5mm, IPC High Density)
footprint TI-DGS10_M (SOP, 10-Leads, Body 3x3mm, Pitch 0.5mm, IPC Low Density)
pins on every part: 4 GND (power), 10 VDD+ (power)
part A pins: 1 OUT1 (hiz), 2 IN1- (in), 3 IN1+ (in), 5 ~{SHDN1} (in)
part B pins: 6 ~{SHDN2} (in), 7 IN2+ (in), 8 IN2- (in), 9 OUT2 (hiz)

## TLV2453CDGSG4
designator U?
Dual Micropower Rail-to-Rail Input / Output Operational Amplifier with Shutdown, 2.7 to 6 V, 0 to 70 degC, 10-pin SOP (DGS10), Green (RoHS & no Sb/Br); Manufacturer: Texas Instruments; PartNumber: TLV2453CDGSG4; CMRR(Min)(dB): 70; IIB(Max)(pA): 5000; Iq per channel(Max)(mA): 0.035; Number of Channels: 2; Offset Drift(Typ)(uV/C): 0.3; Slew Rate(Typ)(V/us): 0.11; Sub Family: Low Power Amp (<=500uA), Low Supply Voltage Amplifier (<=2.7V), Precision Amplifier; Total Supply Voltage(Max)(+5V is 5, +/-5V is 10): 6; Total Supply Voltage(Min)(+5V is 5, +/-5V is 10): 2.7; Vio (25C)(Max)(mV): 1.5; Vn at 1kHz(Typ)(nV/rtHz): 51; DatasheetVersion: SLOS218F; PackageVersion: 4073272/C, 02/2004; PackageReference: DGS10; PackageDescription: 10-Pin Plastic Small Outline, Body 3 x 3 mm, Pitch 0.5 mm; Supplier 1: Digi-Key; Supplier Part Number 1: TLV2453CDGSG4-ND; Supplier 2: Mouser; Supplier Part Number 2: 595-TLV2453CDGSG4; Eco-Plan: Green (RoHS & no Sb/Br); Mounting Technology: Surface Mount; Code_JEDEC: MO-153; ComponentLink1Description: Manufacturer URL; ComponentLink1URL: http://www.ti.com/; ComponentLink2Description: Datasheet; ComponentLink2URL: http://www.ti.com/general/docs/lit/getliterature.tsp?genericPartNumber=TLV2453&fileType=pdf; ComponentLink3Description: Package Specification; ComponentLink3URL: http://www.ti.com/lit/ml/mpds035b/mpds035b.pdf
footprint TI-DGS10_N (SOP, 10-Leads, Body 3x3mm, Pitch 0.5mm, IPC Medium Density)
footprint TI-DGS10_L (SOP, 10-Leads, Body 3x3mm, Pitch 0.5mm, IPC High Density)
footprint TI-DGS10_M (SOP, 10-Leads, Body 3x3mm, Pitch 0.5mm, IPC Low Density)
pins on every part: 4 GND (power), 10 VDD+ (power)
part A pins: 1 OUT1 (hiz), 2 IN1- (in), 3 IN1+ (in), 5 ~{SHDN1} (in)
part B pins: 6 ~{SHDN2} (in), 7 IN2+ (in), 8 IN2- (in), 9 OUT2 (hiz)

## TLV2453CDGSR
designator U?
Dual Micropower Rail-to-Rail Input / Output Operational Amplifier with Shutdown, 2.7 to 6 V, 0 to 70 degC, 10-pin SOP (DGS10), Green (RoHS & no Sb/Br); Manufacturer: Texas Instruments; PartNumber: TLV2453CDGSR; CMRR(Min)(dB): 70; IIB(Max)(pA): 5000; Iq per channel(Max)(mA): 0.035; Number of Channels: 2; Offset Drift(Typ)(uV/C): 0.3; Slew Rate(Typ)(V/us): 0.11; Sub Family: Low Power Amp (<=500uA), Low Supply Voltage Amplifier (<=2.7V), Precision Amplifier; Total Supply Voltage(Max)(+5V is 5, +/-5V is 10): 6; Total Supply Voltage(Min)(+5V is 5, +/-5V is 10): 2.7; Vio (25C)(Max)(mV): 1.5; Vn at 1kHz(Typ)(nV/rtHz): 51; DatasheetVersion: SLOS218F; PackageVersion: 4073272/C, 02/2004; PackageReference: DGS10; PackageDescription: 10-Pin Plastic Small Outline, Body 3 x 3 mm, Pitch 0.5 mm; Supplier 1: Digi-Key; Supplier Part Number 1: 296-10587-2-ND; Supplier 2: Digi-Key; Supplier Part Number 2: 296-10587-1-ND; Supplier 3: Digi-Key; Supplier Part Number 3: 296-10587-6-ND; Supplier 4: Mouser; Supplier Part Number 4: 595-TLV2453CDGSR; Eco-Plan: Green (RoHS & no Sb/Br); Mounting Technology: Surface Mount; Code_JEDEC: MO-153; ComponentLink1Description: Manufacturer URL; ComponentLink1URL: http://www.ti.com/; ComponentLink2Description: Datasheet; ComponentLink2URL: http://www.ti.com/general/docs/lit/getliterature.tsp?genericPartNumber=TLV2453&fileType=pdf; ComponentLink3Description: Package Specification; ComponentLink3URL: http://www.ti.com/lit/ml/mpds035b/mpds035b.pdf
footprint TI-DGS10_N (SOP, 10-Leads, Body 3x3mm, Pitch 0.5mm, IPC Medium Density)
footprint TI-DGS10_L (SOP, 10-Leads, Body 3x3mm, Pitch 0.5mm, IPC High Density)
footprint TI-DGS10_M (SOP, 10-Leads, Body 3x3mm, Pitch 0.5mm, IPC Low Density)
pins on every part: 4 GND (power), 10 VDD+ (power)
part A pins: 1 OUT1 (hiz), 2 IN1- (in), 3 IN1+ (in), 5 ~{SHDN1} (in)
part B pins: 6 ~{SHDN2} (in), 7 IN2+ (in), 8 IN2- (in), 9 OUT2 (hiz)

## TLV2453CDGSRG4
designator U?
Dual Micropower Rail-to-Rail Input / Output Operational Amplifier with Shutdown, 2.7 to 6 V, 0 to 70 degC, 10-pin SOP (DGS10), Green (RoHS & no Sb/Br); Manufacturer: Texas Instruments; PartNumber: TLV2453CDGSRG4; CMRR(Min)(dB): 70; IIB(Max)(pA): 5000; Iq per channel(Max)(mA): 0.035; Number of Channels: 2; Offset Drift(Typ)(uV/C): 0.3; Slew Rate(Typ)(V/us): 0.11; Sub Family: Low Power Amp (<=500uA), Low Supply Voltage Amplifier (<=2.7V), Precision Amplifier; Total Supply Voltage(Max)(+5V is 5, +/-5V is 10): 6; Total Supply Voltage(Min)(+5V is 5, +/-5V is 10): 2.7; Vio (25C)(Max)(mV): 1.5; Vn at 1kHz(Typ)(nV/rtHz): 51; DatasheetVersion: SLOS218F; PackageVersion: 4073272/C, 02/2004; PackageReference: DGS10; PackageDescription: 10-Pin Plastic Small Outline, Body 3 x 3 mm, Pitch 0.5 mm; Supplier 1: Digi-Key; Supplier Part Number 1: TLV2453CDGSRG4-ND; Supplier 2: Mouser; Supplier Part Number 2: 595-TLV2453CDGSRG4; Eco-Plan: Green (RoHS & no Sb/Br); Mounting Technology: Surface Mount; Code_JEDEC: MO-153; ComponentLink1Description: Manufacturer URL; ComponentLink1URL: http://www.ti.com/; ComponentLink2Description: Datasheet; ComponentLink2URL: http://www.ti.com/general/docs/lit/getliterature.tsp?genericPartNumber=TLV2453&fileType=pdf; ComponentLink3Description: Package Specification; ComponentLink3URL: http://www.ti.com/lit/ml/mpds035b/mpds035b.pdf
footprint TI-DGS10_N (SOP, 10-Leads, Body 3x3mm, Pitch 0.5mm, IPC Medium Density)
footprint TI-DGS10_L (SOP, 10-Leads, Body 3x3mm, Pitch 0.5mm, IPC High Density)
footprint TI-DGS10_M (SOP, 10-Leads, Body 3x3mm, Pitch 0.5mm, IPC Low Density)
pins on every part: 4 GND (power), 10 VDD+ (power)
part A pins: 1 OUT1 (hiz), 2 IN1- (in), 3 IN1+ (in), 5 ~{SHDN1} (in)
part B pins: 6 ~{SHDN2} (in), 7 IN2+ (in), 8 IN2- (in), 9 OUT2 (hiz)

## TLV2453CDR
designator U?
Dual Micropower Rail-to-Rail Input / Output Operational Amplifier with Shutdown, 2.7 to 6 V, 0 to 70 degC, 14-pin SOIC (D14), Green (RoHS & no Sb/Br); Manufacturer: Texas Instruments; PartNumber: TLV2453CDR; CMRR(Min)(dB): 70; IIB(Max)(pA): 5000; Iq per channel(Max)(mA): 0.035; Number of Channels: 2; Offset Drift(Typ)(uV/C): 0.3; Slew Rate(Typ)(V/us): 0.11; Sub Family: Low Power Amp (<=500uA), Low Supply Voltage Amplifier (<=2.7V), Precision Amplifier; Total Supply Voltage(Max)(+5V is 5, +/-5V is 10): 6; Total Supply Voltage(Min)(+5V is 5, +/-5V is 10): 2.7; Vio (25C)(Max)(mV): 1.5; Vn at 1kHz(Typ)(nV/rtHz): 51; DatasheetVersion: SLOS218F; PackageVersion: 4040047-5/M, 06/2011; PackageReference: D14; PackageDescription: 14-Pin Plastic Small Outline, Body 8.65 x 3.9 mm, Pitch 1.27 mm; Supplier 1: Digi-Key; Supplier Part Number 1: 296-2429-2-ND; Supplier 2: Digi-Key; Supplier Part Number 2: 296-2429-1-ND; Supplier 3: Digi-Key; Supplier Part Number 3: 296-2429-6-ND; Supplier 4: Mouser; Supplier Part Number 4: 595-TLV2453CDR; Eco-Plan: Green (RoHS & no Sb/Br); Mounting Technology: Surface Mount; Code_JEDEC: MS-012; ComponentLink1Description: Manufacturer URL; ComponentLink1URL: http://www.ti.com/; ComponentLink2Description: Datasheet; ComponentLink2URL: http://www.ti.com/general/docs/lit/getliterature.tsp?genericPartNumber=TLV2453&fileType=pdf; ComponentLink3Description: Package Specification; ComponentLink3URL: http://www.ti.com/lit/ml/mpds177g/mpds177g.pdf
footprint TI-D14_N (SOIC, 14-Leads, Body 8.65x3.9mm, Pitch 1.27mm, IPC Medium Density)
footprint TI-D14_L (SOIC, 14-Leads, Body 8.65x3.9mm, Pitch 1.27mm, IPC High Density)
footprint TI-D14_M (SOIC, 14-Leads, Body 8.65x3.9mm, Pitch 1.27mm, IPC Low Density)
part A pins: 1 OUT1 (hiz), 2 IN1- (in), 3 IN1+ (in), 6 ~{SHDN1} (in)
part B pins: 9 ~{SHDN2} (in), 11 IN2+ (in), 12 IN2- (in), 13 OUT2 (hiz)
part C pins: 4 GND (power), 5 NC, 7 NC, 8 NC, 10 NC, 14 VDD+ (power)